# Altium schematic symbol library Isolator.SchLib: 331 symbols (part 1 of 3)
Pins are listed as number, name and electrical type; pins without a type are passive.

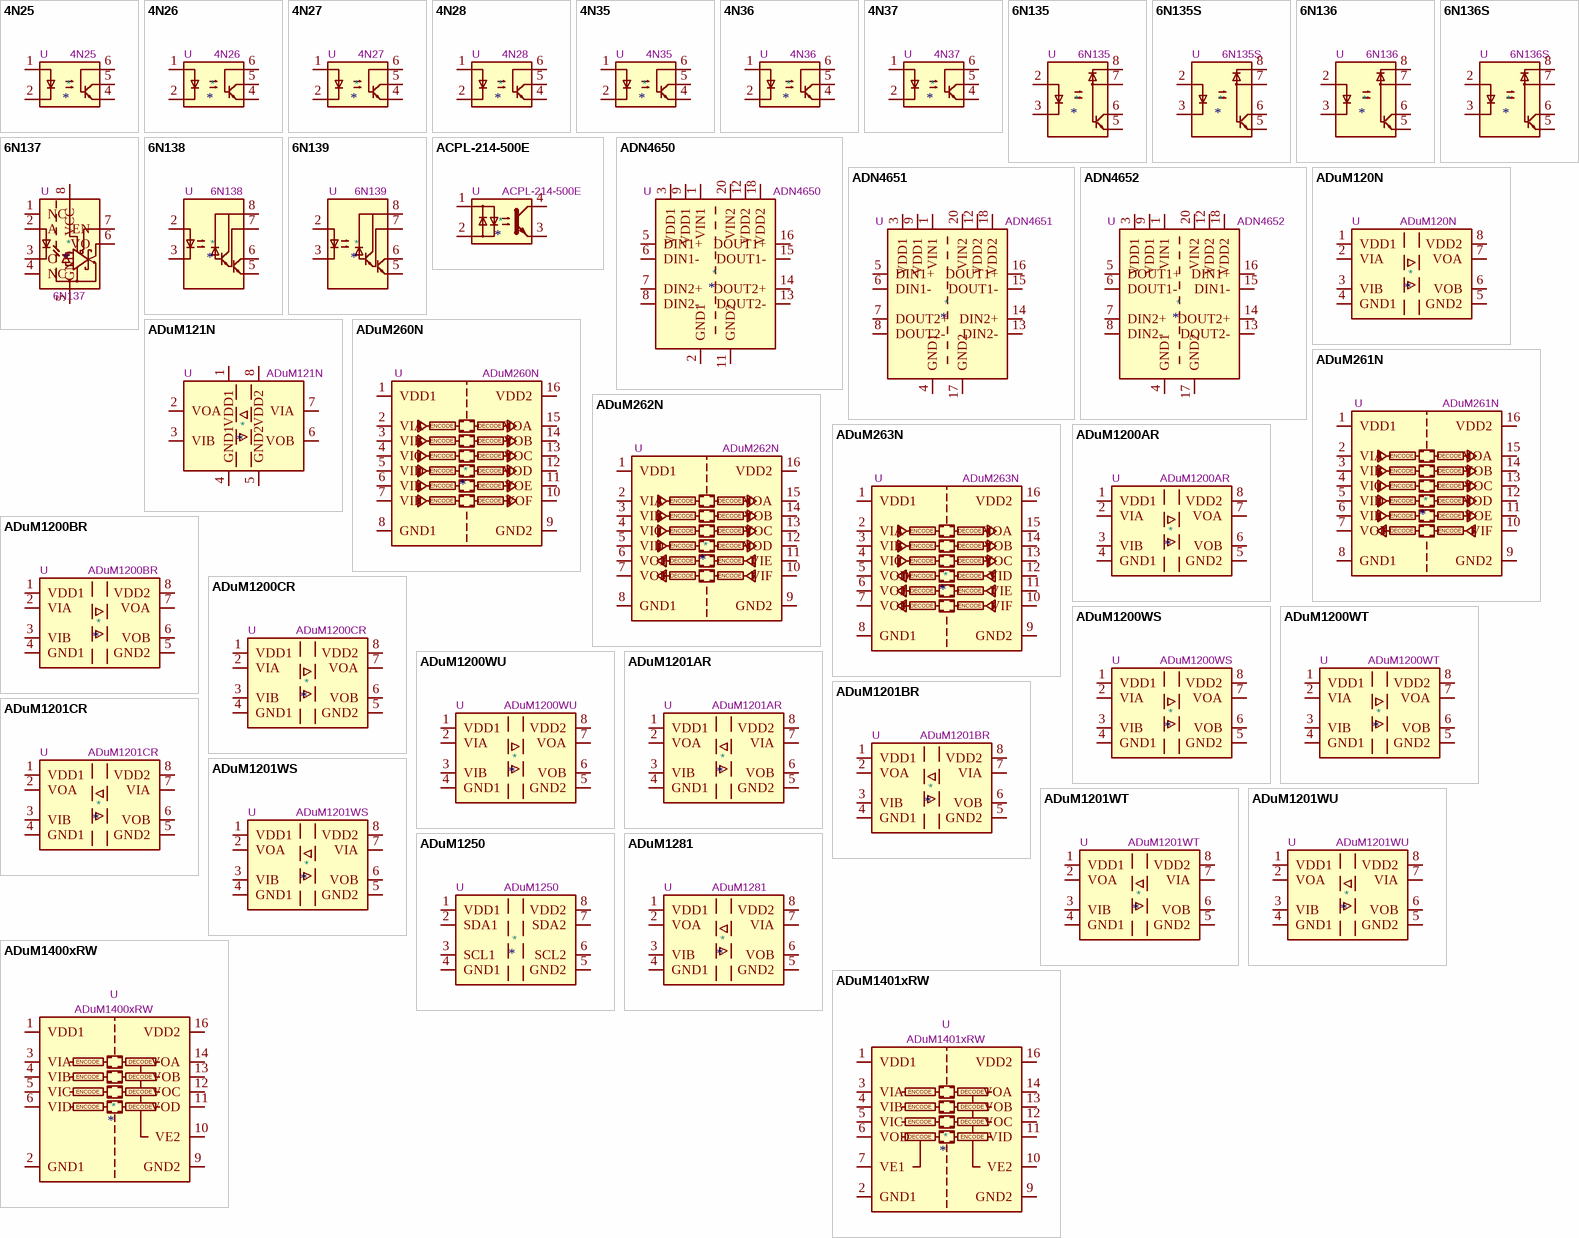
[diagram p0: symbols 4N25 to ADuM1401xRW]

## 4N25
designator *  value 4N25  Reference: U
ki_keywords: NPN DC Optocoupler Base Connected; ki_description: DC Optocoupler Base Connected, Vce 30V, CTR 20%, Viso 2500V, DIP6; ki_fp_filters: DIP*W7.62mm*; Footprint: Package_DIP:DIP-6_W7.62mm; Datasheet: https://www.vishay.com/docs/83725/4n25.pdf
pins: 1, 2, 3 NC hidden, 4, 5, 6

## 4N26
designator *  value 4N26  Reference: U
ki_keywords: NPN DC Optocoupler Base Connected; ki_description: DC Optocoupler Base Connected, Vce 30V, CTR 20%, Viso 1500V, DIP6; ki_fp_filters: DIP*W7.62mm*; Footprint: Package_DIP:DIP-6_W7.62mm; Datasheet: https://www.vishay.com/docs/83725/4n25.pdf
pins: 1, 2, 3 NC hidden, 4, 5, 6

## 4N27
designator *  value 4N27  Reference: U
ki_keywords: NPN DC Optocoupler Base Connected; ki_description: DC Optocoupler Base Connected, Vce 30V, CTR 10%, Viso 2500V, DIP6; ki_fp_filters: DIP*W7.62mm*; Footprint: Package_DIP:DIP-6_W7.62mm; Datasheet: https://www.vishay.com/docs/83725/4n25.pdf
pins: 1, 2, 3 NC hidden, 4, 5, 6

## 4N28
designator *  value 4N28  Reference: U
ki_keywords: NPN DC Optocoupler Base Connected; ki_description: DC Optocoupler Base Connected, Vce 30V, CTR 10%, Viso 2500V, DIP6; ki_fp_filters: DIP*W7.62mm*; Footprint: Package_DIP:DIP-6_W7.62mm; Datasheet: https://www.vishay.com/docs/83725/4n25.pdf
pins: 1, 2, 3 NC hidden, 4, 5, 6

## 4N35
designator *  value 4N35  Reference: U
ki_keywords: NPN DC Optocoupler Base Connected; ki_description: Optocoupler, Phototransistor Output, with Base Connection, Vce 70V, CTR 100%, Viso 5000V, DIP6; ki_fp_filters: DIP*W7.62mm*; Footprint: Package_DIP:DIP-6_W7.62mm; Datasheet: https://www.vishay.com/docs/81181/4n35.pdf
pins: 1, 2, 3 NC hidden, 4, 5, 6

## 4N36
designator *  value 4N36  Reference: U
ki_keywords: NPN DC Optocoupler Base Connected; ki_description: Optocoupler, Phototransistor Output, with Base Connection, Vce 70V, CTR 100%, Viso 5000V, DIP6; ki_fp_filters: DIP*W7.62mm*; Footprint: Package_DIP:DIP-6_W7.62mm; Datasheet: https://www.vishay.com/docs/81181/4n35.pdf
pins: 1, 2, 3 NC hidden, 4, 5, 6

## 4N37
designator *  value 4N37  Reference: U
ki_keywords: NPN DC Optocoupler Base Connected; ki_description: Optocoupler, Phototransistor Output, with Base Connection, Vce 70V, CTR 100%, Viso 5000V, DIP6; ki_fp_filters: DIP*W7.62mm*; Footprint: Package_DIP:DIP-6_W7.62mm; Datasheet: https://www.vishay.com/docs/81181/4n35.pdf
pins: 1, 2, 3 NC hidden, 4, 5, 6

## 6N135
designator *  value 6N135  Reference: U
ki_keywords: High Speed Optocoupler; ki_description: High Speed Optocoupler, TTL Compatible, CTR 18%, DIP8; ki_fp_filters: DIP*W7.62mm*; Footprint: Package_DIP:DIP-8_W7.62mm; Datasheet: https://optoelectronics.liteon.com/upload/download/DS70-2008-0032/6N135-L%206N136-L%20series.pdf
pins: 1 NC hidden, 2, 3, 4 NC hidden, 5, 6, 7, 8

## 6N135S
designator *  value 6N135S  Reference: U
ki_keywords: High Speed Optocoupler; ki_description: High Speed Optocoupler, TTL Compatible, CTR 18%, SMDIP8; ki_fp_filters: SMDIP*W9.53mm*; Footprint: Package_DIP:SMDIP-8_W9.53mm; Datasheet: https://optoelectronics.liteon.com/upload/download/DS70-2008-0032/6N135-L%206N136-L%20series.pdf
pins: 1 NC hidden, 2, 3, 4 NC hidden, 5, 6, 7, 8

## 6N136
designator *  value 6N136  Reference: U
ki_keywords: High Speed Optocoupler; ki_description: High Speed Optocoupler, TTL Compatible, CTR 24%, DIP8; ki_fp_filters: DIP*W7.62mm*; Footprint: Package_DIP:DIP-8_W7.62mm; Datasheet: https://optoelectronics.liteon.com/upload/download/DS70-2008-0032/6N135-L%206N136-L%20series.pdf
pins: 1 NC hidden, 2, 3, 4 NC hidden, 5, 6, 7, 8

## 6N136S
designator *  value 6N136S  Reference: U
ki_keywords: High Speed Optocoupler; ki_description: High Speed Optocoupler, TTL Compatible, CTR 18%, SMDIP8; ki_fp_filters: SMDIP*W9.53mm*; Footprint: Package_DIP:SMDIP-8_W9.53mm; Datasheet: https://optoelectronics.liteon.com/upload/download/DS70-2008-0032/6N135-L%206N136-L%20series.pdf
pins: 1 NC hidden, 2, 3, 4 NC hidden, 5, 6, 7, 8

## 6N137
designator *  value 6N137  Reference: U
ki_keywords: High speed optically coupled gates enable; ki_description: Single High Speed LSTTL/TTL Compatible Optocoupler with enable, dV/dt 1000/us, VCM 10, max 7V VCC, DIP-8; ki_fp_filters: DIP*W7.62mm*; Footprint: Package_DIP:DIP-8_W7.62mm; Datasheet: https://docs.broadcom.com/docs/AV02-0940EN
pins: 1 NC, 2 A, 3 C, 4 NC, 5 GND, 6 VO, 7 EN, 8 VCC

## 6N138
designator *  value 6N138  Reference: U
ki_keywords: darlington optocoupler; ki_description: Low Input Current high Gain Split Darlington Optocouplers, -0.5V to 7V VDD, DIP-8; ki_fp_filters: DIP*W7.62mm* SMDIP*W9.53mm*; Datasheet: http://www.onsemi.com/pub/Collateral/HCPL2731-D.pdf
pins: 1 NC hidden, 2 C1, 3 C2, 4 NC hidden, 5 GND, 6 VO2, 7 VO1, 8 VCC

## 6N139
designator *  value 6N139  Reference: U
ki_keywords: darlington optocoupler; ki_description: Low Input Current high Gain Split Darlington Optocouplers, -0.5V to 18V VDD, DIP-8; ki_fp_filters: DIP*W7.62mm* SMDIP*W9.53mm*; Datasheet: http://www.onsemi.com/pub/Collateral/HCPL2731-D.pdf
pins: 1 NC hidden, 2 C1, 3 C2, 4 NC hidden, 5 GND, 6 VO2, 7 VO1, 8 VCC

## ACPL-214-500E
designator *  value ACPL-214-500E  Reference: U
ki_keywords: npn ac dc ac-dc acdc phototransistor optocoupler optoisolator; ki_description: AC/DC Phototransistor Optocoupler, Vce 80V, CTR 20-400%, SOP-4; ki_fp_filters: SOP*4*4.4x2.6mm*P1.27mm*; Footprint: Package_SO:SOP-4_4.4x2.6mm_P1.27mm; Datasheet: https://docs.broadcom.com/doc/AV02-0469EN
pins: 1, 2, 3, 4

## ADN4650
designator *  value ADN4650  Reference: U
ki_keywords: LVDS Isolator; ki_description: Dual-Channel LVDS Isolators, 5 kV RMS/3.75 kV RMS, 600 Mbps, SSOP-20; ki_fp_filters: SSOP*5.3x7.2mm*P0.65mm*; Footprint: Package_SO:SSOP-20_5.3x7.2mm_P0.65mm; Datasheet: https://www.analog.com/media/en/technical-documentation/data-sheets/adn4650-4651-4652.pdf
pins: 1 VIN1, 2 GND1, 3 VDD1, 4 GND1 hidden, 5 DIN1+, 6 DIN1-, 7 DIN2+, 8 DIN2-, 9 VDD1, 10 GND1 hidden, 11 GND2, 12 VDD2, 13 DOUT2-, 14 DOUT2+, 15 DOUT1-, 16 DOUT1+, 17 GND2 hidden, 18 VDD2, 19 GND2 hidden, 20 VIN2

## ADN4651
designator *  value ADN4651  Reference: U
ki_keywords: LVDS Isolator; ki_description: Dual-Channel LVDS Isolators, 5 kV RMS/3.75 kV RMS, 600 Mbps, SSOP-20; ki_fp_filters: SSOP*5.3x7.2mm*P0.65mm*; Footprint: Package_SO:SSOP-20_5.3x7.2mm_P0.65mm; Datasheet: https://www.analog.com/media/en/technical-documentation/data-sheets/adn4650-4651-4652.pdf
pins: 1 VIN1, 2 GND1 hidden, 3 VDD1, 4 GND1, 5 DIN1+, 6 DIN1-, 7 DOUT2+, 8 DOUT2-, 9 VDD1, 10 GND1 hidden, 11 GND2 hidden, 12 VDD2, 13 DIN2-, 14 DIN2+, 15 DOUT1-, 16 DOUT1+, 17 GND2, 18 VDD2, 19 GND2 hidden, 20 VIN2

## ADN4652
designator *  value ADN4652  Reference: U
ki_keywords: LVDS Isolator; ki_description: Dual-Channel LVDS Isolators, 5 kV RMS/3.75 kV RMS, 600 Mbps, SSOP-20; ki_fp_filters: SSOP*5.3x7.2mm*P0.65mm*; Footprint: Package_SO:SSOP-20_5.3x7.2mm_P0.65mm; Datasheet: https://www.analog.com/media/en/technical-documentation/data-sheets/adn4650-4651-4652.pdf
pins: 1 VIN1, 2 GND1 hidden, 3 VDD1, 4 GND1, 5 DOUT1+, 6 DOUT1-, 7 DIN2+, 8 DIN2-, 9 VDD1, 10 GND1 hidden, 11 GND2 hidden, 12 VDD2, 13 DOUT2-, 14 DOUT2+, 15 DIN1-, 16 DIN1+, 17 GND2, 18 VDD2, 19 GND2 hidden, 20 VIN2

## ADuM120N
designator *  value ADuM120N  Reference: U
ki_keywords: Dual-channel digital isolator; ki_description: Dual-channel digital isolator,1.8 to 5V, 150Mbs, 3kV; ki_fp_filters: SOIC*3.9x4.9mm*P1.27mm*; Footprint: Package_SO:SOIC-8_3.9x4.9mm_P1.27mm; Datasheet: https://www.analog.com/media/en/technical-documentation/data-sheets/ADuM120N_121N.pdf
pins: 1 VDD1, 2 VIA, 3 VIB, 4 GND1, 5 GND2, 6 VOB, 7 VOA, 8 VDD2

## ADuM121N
designator *  value ADuM121N  Reference: U
ki_keywords: Dual-channel digital isolator; ki_description: Dual-channel digital isolator,1.8 to 5V, 150Mbs, 3kV; ki_fp_filters: SOIC*3.9x4.9mm*P1.27mm*; Footprint: Package_SO:SOIC-8_3.9x4.9mm_P1.27mm; Datasheet: https://www.analog.com/media/en/technical-documentation/data-sheets/ADuM120N_121N.pdf
pins: 1 VDD1, 2 VOA, 3 VIB, 4 GND1, 5 GND2, 6 VOB, 7 VIA, 8 VDD2

## ADuM260N
designator *  value ADuM260N  Reference: U
ki_keywords: digital isolator galvanic isopower; ki_description: 5.0 kV RMS, 6-Channel Digital Isolator, 0 reverse channels, SOIC-16; ki_fp_filters: SOIC*7.5x12.8mm*P1.27mm*; Footprint: Package_SO:SOIC-16W_7.5x12.8mm_P1.27mm; Datasheet: http://www.analog.com/media/en/technical-documentation/data-sheets/ADuM260N-261N-262N-263N.pdf
pins: 1 VDD1, 2 VIA, 3 VIB, 4 VIC, 5 VID, 6 VIE, 7 VIF, 8 GND1, 9 GND2, 10 VOF, 11 VOE, 12 VOD, 13 VOC, 14 VOB, 15 VOA, 16 VDD2
text: ENCODE; DECODE

## ADuM261N
designator *  value ADuM261N  Reference: U
ki_keywords: digital isolator galvanic isopower; ki_description: 5.0 kV RMS, 6-Channel Digital Isolator, 1 reverse channels, SOIC-16; ki_fp_filters: SOIC*7.5x12.8mm*P1.27mm*; Footprint: Package_SO:SOIC-16W_7.5x12.8mm_P1.27mm; Datasheet: http://www.analog.com/media/en/technical-documentation/data-sheets/ADuM260N-261N-262N-263N.pdf
pins: 1 VDD1, 2 VIA, 3 VIB, 4 VIC, 5 VID, 6 VIE, 7 VOF, 8 GND1, 9 GND2, 10 VIF, 11 VOE, 12 VOD, 13 VOC, 14 VOB, 15 VOA, 16 VDD2
text: ENCODE; DECODE

## ADuM262N
designator *  value ADuM262N  Reference: U
ki_keywords: digital isolator galvanic isopower; ki_description: 5.0 kV RMS, 6-Channel Digital Isolator, 2 reverse channels, SOIC-16; ki_fp_filters: SOIC*7.5x12.8mm*P1.27mm*; Footprint: Package_SO:SOIC-16W_7.5x12.8mm_P1.27mm; Datasheet: http://www.analog.com/media/en/technical-documentation/data-sheets/ADuM260N-261N-262N-263N.pdf
pins: 1 VDD1, 2 VIA, 3 VIB, 4 VIC, 5 VID, 6 VOE, 7 VOF, 8 GND1, 9 GND2, 10 VIF, 11 VIE, 12 VOD, 13 VOC, 14 VOB, 15 VOA, 16 VDD2
text: ENCODE; DECODE

## ADuM263N
designator *  value ADuM263N  Reference: U
ki_keywords: digital isolator galvanic isopower; ki_description: 5.0 kV RMS, 6-Channel Digital Isolator, 3 reverse channels, SOIC-16; ki_fp_filters: SOIC*7.5x12.8mm*P1.27mm*; Footprint: Package_SO:SOIC-16W_7.5x12.8mm_P1.27mm; Datasheet: http://www.analog.com/media/en/technical-documentation/data-sheets/ADuM260N-261N-262N-263N.pdf
pins: 1 VDD1, 2 VIA, 3 VIB, 4 VIC, 5 VOD, 6 VOE, 7 VOF, 8 GND1, 9 GND2, 10 VIF, 11 VIE, 12 VID, 13 VOC, 14 VOB, 15 VOA, 16 VDD2
text: ENCODE; DECODE

## ADuM1200AR
designator *  value ADuM1200AR  Reference: U
ki_keywords: Dual-channel digital isolator; ki_description: Dual-channel digital isolator, Bidirectional communication, 3V/5V level translation, SOIC-8; ki_fp_filters: SOIC*3.9x4.9mm*P1.27mm*; Footprint: Package_SO:SOIC-8_3.9x4.9mm_P1.27mm; Datasheet: https://www.analog.com/media/en/technical-documentation/data-sheets/ADuM1200_1201.pdf
pins: 1 VDD1, 2 VIA, 3 VIB, 4 GND1, 5 GND2, 6 VOB, 7 VOA, 8 VDD2

## ADuM1200BR
designator *  value ADuM1200BR  Reference: U
ki_keywords: 2Ch Dual Digital Isolator 10Mbps; ki_description: Dual-Channel Digital Isolator, 10Mbps 50ns, bidirectional communication, 3V/5V level translation, SOIC-8; ki_fp_filters: SOIC*3.9x4.9mm*P1.27mm*; Footprint: Package_SO:SOIC-8_3.9x4.9mm_P1.27mm; Datasheet: https://www.analog.com/static/imported-files/data_sheets/ADuM1200_1201.pdf
pins: 1 VDD1, 2 VIA, 3 VIB, 4 GND1, 5 GND2, 6 VOB, 7 VOA, 8 VDD2

## ADuM1200CR
designator *  value ADuM1200CR  Reference: U
ki_keywords: 2Ch Dual Digital Isolator 25Mbps; ki_description: Dual-Channel Digital Isolator, 25Mbps 45ns, bidirectional communication, 3V/5V level translation, SOIC-8; ki_fp_filters: SOIC*3.9x4.9mm*P1.27mm*; Footprint: Package_SO:SOIC-8_3.9x4.9mm_P1.27mm; Datasheet: https://www.analog.com/static/imported-files/data_sheets/ADuM1200_1201.pdf
pins: 1 VDD1, 2 VIA, 3 VIB, 4 GND1, 5 GND2, 6 VOB, 7 VOA, 8 VDD2

## ADuM1200WS
designator *  value ADuM1200WS  Reference: U
ki_keywords: 2Ch Dual Digital Isolator 1Mbps; ki_description: Dual-Channel Digital Isolator, 1Mbps 150ns, Highest Tem. Grade, bidirectional communication, 3V/5V level translation, SOIC-8; ki_fp_filters: SOIC*3.9x4.9mm*P1.27mm*; Footprint: Package_SO:SOIC-8_3.9x4.9mm_P1.27mm; Datasheet: https://www.analog.com/static/imported-files/data_sheets/ADuM1200_1201.pdf
pins: 1 VDD1, 2 VIA, 3 VIB, 4 GND1, 5 GND2, 6 VOB, 7 VOA, 8 VDD2

## ADuM1200WT
designator *  value ADuM1200WT  Reference: U
ki_keywords: 2Ch Dual Digital Isolator 10Mbps; ki_description: Dual-Channel Digital Isolator, 10Mbps 50ns, Highest Tem. Grade, bidirectional communication, 3V/5V level translation, SOIC-8; ki_fp_filters: SOIC*3.9x4.9mm*P1.27mm*; Footprint: Package_SO:SOIC-8_3.9x4.9mm_P1.27mm; Datasheet: https://www.analog.com/static/imported-files/data_sheets/ADuM1200_1201.pdf
pins: 1 VDD1, 2 VIA, 3 VIB, 4 GND1, 5 GND2, 6 VOB, 7 VOA, 8 VDD2

## ADuM1200WU
designator *  value ADuM1200WU  Reference: U
ki_keywords: 2Ch Dual Digital Isolator 25Mbps; ki_description: Dual-Channel Digital Isolator, 25Mbps 45ns, Highest Tem. Grade, bidirectional communication, 3V/5V level translation, SOIC-8; ki_fp_filters: SOIC*3.9x4.9mm*P1.27mm*; Footprint: Package_SO:SOIC-8_3.9x4.9mm_P1.27mm; Datasheet: https://www.analog.com/static/imported-files/data_sheets/ADuM1200_1201.pdf
pins: 1 VDD1, 2 VIA, 3 VIB, 4 GND1, 5 GND2, 6 VOB, 7 VOA, 8 VDD2

## ADuM1201AR
designator *  value ADuM1201AR  Reference: U
ki_keywords: Dual-channel digital isolator; ki_description: Dual-channel digital isolator, bidirectional communication, 3V/5V level translation, SOIC-8; ki_fp_filters: SOIC*3.9x4.9mm*P1.27mm*; Footprint: Package_SO:SOIC-8_3.9x4.9mm_P1.27mm; Datasheet: https://www.analog.com/media/en/technical-documentation/data-sheets/ADuM1200_1201.pdf
pins: 1 VDD1, 2 VOA, 3 VIB, 4 GND1, 5 GND2, 6 VOB, 7 VIA, 8 VDD2

## ADuM1201BR
designator *  value ADuM1201BR  Reference: U
ki_keywords: 2Ch Dual Digital Isolator 10Mbps; ki_description: Dual-Channel Digital Isolator, 10Mbps 50ns, bidirectional communication, 3V/5V level translation, SOIC-8; ki_fp_filters: SOIC*3.9x4.9mm*P1.27mm*; Footprint: Package_SO:SOIC-8_3.9x4.9mm_P1.27mm; Datasheet: https://www.analog.com/static/imported-files/data_sheets/ADuM1200_1201.pdf
pins: 1 VDD1, 2 VOA, 3 VIB, 4 GND1, 5 GND2, 6 VOB, 7 VIA, 8 VDD2

## ADuM1201CR
designator *  value ADuM1201CR  Reference: U
ki_keywords: 2Ch Dual Digital Isolator 25Mbps; ki_description: Dual-Channel Digital Isolator, 25Mbps 45ns, bidirectional communication, 3V/5V level translation, SOIC-8; ki_fp_filters: SOIC*3.9x4.9mm*P1.27mm*; Footprint: Package_SO:SOIC-8_3.9x4.9mm_P1.27mm; Datasheet: https://www.analog.com/static/imported-files/data_sheets/ADuM1200_1201.pdf
pins: 1 VDD1, 2 VOA, 3 VIB, 4 GND1, 5 GND2, 6 VOB, 7 VIA, 8 VDD2

## ADuM1201WS
designator *  value ADuM1201WS  Reference: U
ki_keywords: 2Ch Dual Digital Isolator 1Mbps; ki_description: Dual-Channel Digital Isolator, 1Mbps 150ns, Highest Temp. Grade, bidirectional communication, 3V/5V level translation, SOIC-8; ki_fp_filters: SOIC*3.9x4.9mm*P1.27mm*; Footprint: Package_SO:SOIC-8_3.9x4.9mm_P1.27mm; Datasheet: https://www.analog.com/static/imported-files/data_sheets/ADuM1200_1201.pdf
pins: 1 VDD1, 2 VOA, 3 VIB, 4 GND1, 5 GND2, 6 VOB, 7 VIA, 8 VDD2

## ADuM1201WT
designator *  value ADuM1201WT  Reference: U
ki_keywords: 2Ch Dual Digital Isolator 10Mbps; ki_description: Dual-Channel Digital Isolator, 10Mbps 50ns, Hihgest Temp. Grade, bidirectional communication, 3V/5V level translation, SOIC-8; ki_fp_filters: SOIC*3.9x4.9mm*P1.27mm*; Footprint: Package_SO:SOIC-8_3.9x4.9mm_P1.27mm; Datasheet: https://www.analog.com/static/imported-files/data_sheets/ADuM1200_1201.pdf
pins: 1 VDD1, 2 VOA, 3 VIB, 4 GND1, 5 GND2, 6 VOB, 7 VIA, 8 VDD2

## ADuM1201WU
designator *  value ADuM1201WU  Reference: U
ki_keywords: 2Ch Dual Digital Isolator 25Mbps; ki_description: Dual-Channel Digital Isolator, 25Mbps 45ns, Highest Temp. Grade, bidirectional communication, 3V/5V level translation, SOIC-8; ki_fp_filters: SOIC*3.9x4.9mm*P1.27mm*; Footprint: Package_SO:SOIC-8_3.9x4.9mm_P1.27mm; Datasheet: https://www.analog.com/static/imported-files/data_sheets/ADuM1200_1201.pdf
pins: 1 VDD1, 2 VOA, 3 VIB, 4 GND1, 5 GND2, 6 VOB, 7 VIA, 8 VDD2

## ADuM1250
designator *  value ADuM1250  Reference: U
ki_keywords: Dual-channel digital isolator I2C; ki_description: Dual-channel I2C digital isolator, Bidirectional communication, 3V/5V level translation, SOIC-8; ki_fp_filters: SOIC*3.9x4.9mm*P1.27mm*; Footprint: Package_SO:SOIC-8_3.9x4.9mm_P1.27mm; Datasheet: https://www.analog.com/media/en/technical-documentation/data-sheets/ADuM1250_1251.pdf
pins: 1 VDD1, 2 SDA1, 3 SCL1, 4 GND1, 5 GND2, 6 SCL2, 7 SDA2, 8 VDD2

## ADuM1281
designator *  value ADuM1281  Reference: U
ki_keywords: Dual-channel digital isolator; ki_description: Dual-channel digital isolator, bidirectional communication, 3V/5V level translation, SOIC-8; ki_fp_filters: SOIC*3.9x4.9mm*P1.27mm*; Footprint: Package_SO:SOIC-8_3.9x4.9mm_P1.27mm; Datasheet: https://www.analog.com/media/en/technical-documentation/data-sheets/ADuM1280_1281_1285_1286.pdf
pins: 1 VDD1, 2 VOA, 3 VIB, 4 GND1, 5 GND2, 6 VOB, 7 VIA, 8 VDD2

## ADuM1400xRW
designator *  value ADuM1400xRW  Reference: U
ki_keywords: Digital Isolator; ki_description: Quad Channel Digital Isolator, 10Mbps, SOIC-16; ki_fp_filters: SOIC*7.5x10.3mm*P1.27mm*; Footprint: Package_SO:SOIC-16W_7.5x10.3mm_P1.27mm; Datasheet: https://www.analog.com/media/en/technical-documentation/data-sheets/ADUM1400_1401_1402.pdf
pins: 1 VDD1, 2 GND1, 3 VIA, 4 VIB, 5 VIC, 6 VID, 7 NC hidden, 8 GND1 hidden, 9 GND2, 10 VE2, 11 VOD, 12 VOC, 13 VOB, 14 VOA, 15 GND2 hidden, 16 VDD2
text: ENCODE; DECODE

## ADuM1401xRW
designator *  value ADuM1401xRW  Reference: U
ki_keywords: Digital Isolator; ki_description: Quad Channel Digital Isolator, 10Mbps, SOIC-16; ki_fp_filters: SOIC*7.5x10.3mm*P1.27mm*; Footprint: Package_SO:SOIC-16W_7.5x10.3mm_P1.27mm; Datasheet: https://www.analog.com/media/en/technical-documentation/data-sheets/ADUM1400_1401_1402.pdf
pins: 1 VDD1, 2 GND1, 3 VIA, 4 VIB, 5 VIC, 6 VOD, 7 VE1, 8 GND1 hidden, 9 GND2, 10 VE2, 11 VID, 12 VOC, 13 VOB, 14 VOA, 15 GND2 hidden, 16 VDD2
text: ENCODE; DECODE

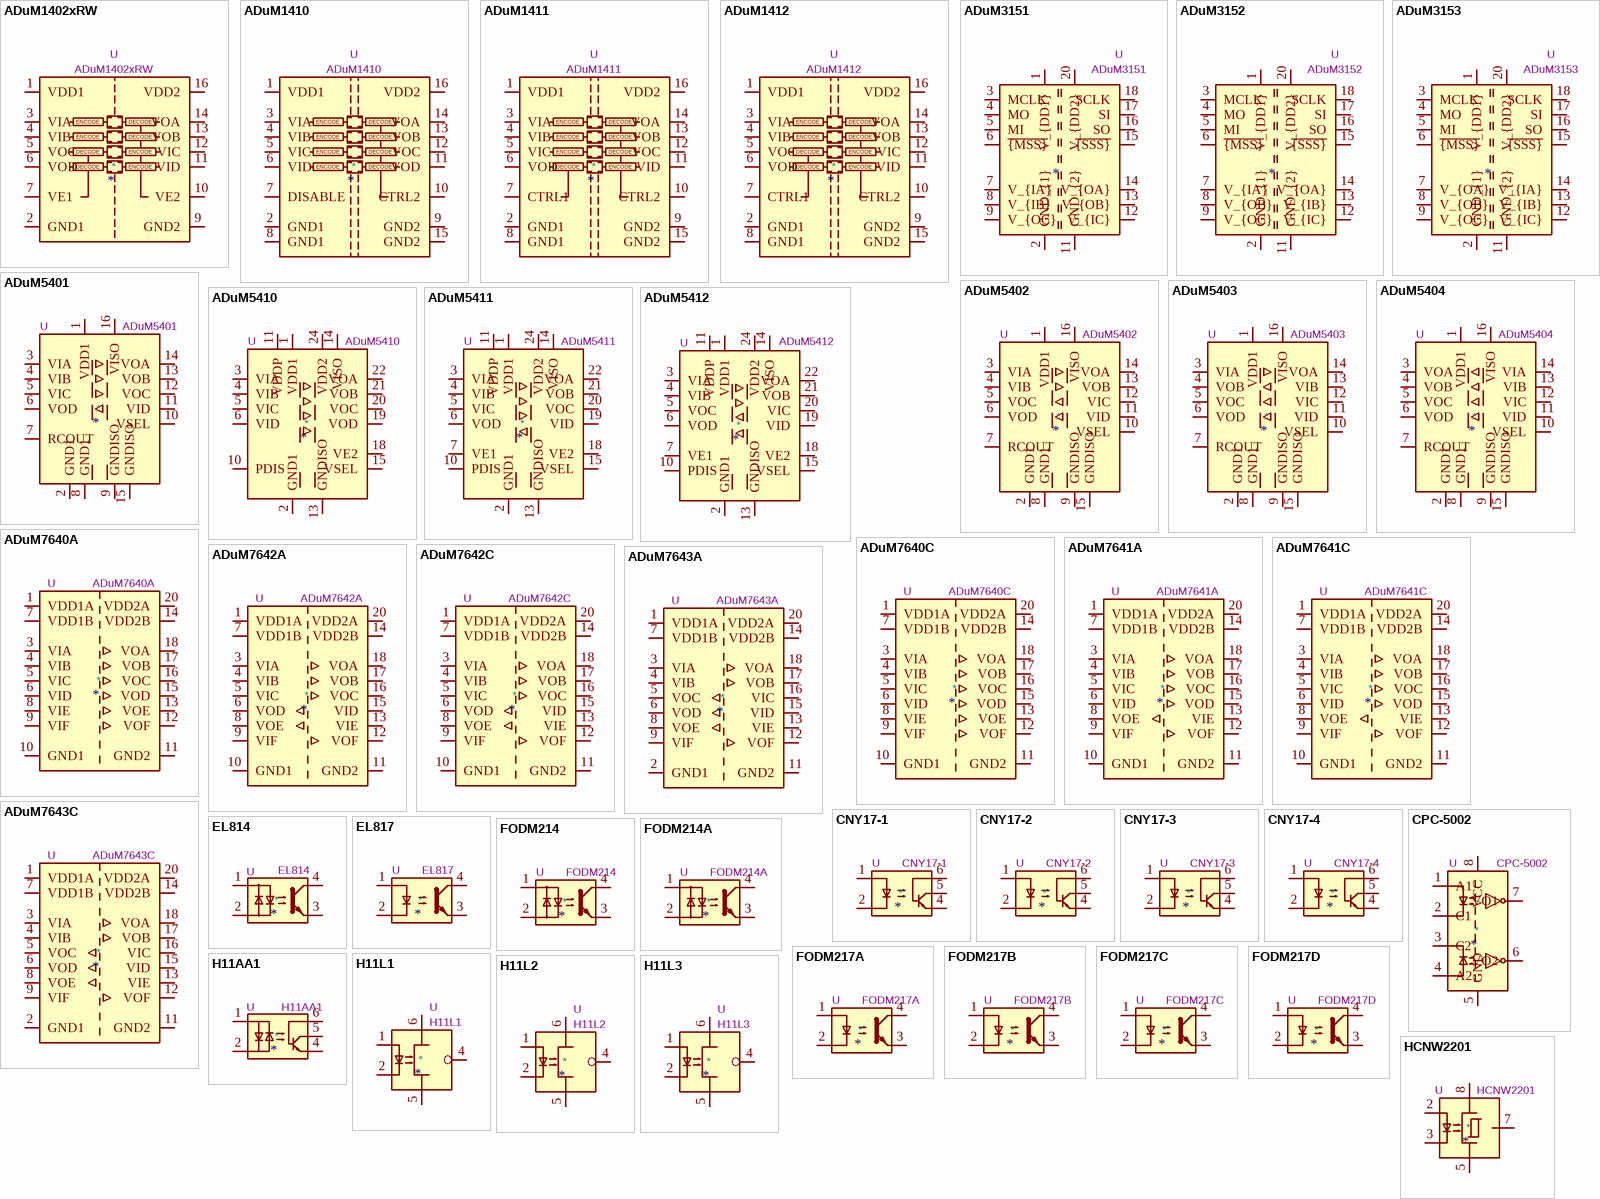
[diagram p1: symbols ADuM1402xRW to HCNW2201]

## ADuM1402xRW
designator *  value ADuM1402xRW  Reference: U
ki_keywords: Digital Isolator; ki_description: Quad Channel Digital Isolator, 10Mbps, SOIC-16; ki_fp_filters: SOIC*7.5x10.3mm*P1.27mm*; Footprint: Package_SO:SOIC-16W_7.5x10.3mm_P1.27mm; Datasheet: https://www.analog.com/media/en/technical-documentation/data-sheets/ADUM1400_1401_1402.pdf
pins: 1 VDD1, 2 GND1, 3 VIA, 4 VIB, 5 VOC, 6 VOD, 7 VE1, 8 GND1 hidden, 9 GND2, 10 VE2, 11 VID, 12 VIC, 13 VOB, 14 VOA, 15 GND2 hidden, 16 VDD2
text: ENCODE; DECODE

## ADuM1410
designator *  value ADuM1410  Reference: U
ki_keywords: Digital Isolator; ki_description: Quad Channel Digital Isolator,10Mbps,SO-16; ki_fp_filters: SOIC*7.5x10.3mm*P1.27mm*; Footprint: Package_SO:SOIC-16W_7.5x10.3mm_P1.27mm; Datasheet: https://www.analog.com/media/en/technical-documentation/data-sheets/ADUM1410_1411_1412.pdf
pins: 1 VDD1, 2 GND1, 3 VIA, 4 VIB, 5 VIC, 6 VID, 7 DISABLE, 8 GND1, 9 GND2, 10 CTRL2, 11 VOD, 12 VOC, 13 VOB, 14 VOA, 15 GND2, 16 VDD2
text: ENCODE; DECODE

## ADuM1411
designator *  value ADuM1411  Reference: U
ki_keywords: Digital Isolator; ki_description: Quad Channel Digital Isolator,10Mbps,SO-16; ki_fp_filters: SOIC*7.5x10.3mm*P1.27mm*; Footprint: Package_SO:SOIC-16W_7.5x10.3mm_P1.27mm; Datasheet: https://www.analog.com/media/en/technical-documentation/data-sheets/ADUM1410_1411_1412.pdf
pins: 1 VDD1, 2 GND1, 3 VIA, 4 VIB, 5 VIC, 6 VOD, 7 CTRL1, 8 GND1, 9 GND2, 10 CTRL2, 11 VID, 12 VOC, 13 VOB, 14 VOA, 15 GND2, 16 VDD2
text: ENCODE; DECODE

## ADuM1412
designator *  value ADuM1412  Reference: U
ki_keywords: Digital Isolator; ki_description: Quad Channel Digital Isolator,10Mbps,SO-16; ki_fp_filters: SOIC*7.5x10.3mm*P1.27mm*; Footprint: Package_SO:SOIC-16W_7.5x10.3mm_P1.27mm; Datasheet: https://www.analog.com/media/en/technical-documentation/data-sheets/ADUM1410_1411_1412.pdf
pins: 1 VDD1, 2 GND1, 3 VIA, 4 VIB, 5 VOC, 6 VOD, 7 CTRL1, 8 GND1, 9 GND2, 10 CTRL2, 11 VID, 12 VIC, 13 VOB, 14 VOA, 15 GND2, 16 VDD2
text: ENCODE; DECODE

## ADuM3151
designator *  value ADuM3151  Reference: U
ki_keywords: spi isolated; ki_description: 3.75kV 7-Channel SPI Isolator, 1 Reverse Channel, SSOP-20; ki_fp_filters: SSOP*5.3x7.2mm*P0.65mm*; Footprint: Package_SO:SSOP-20_5.3x7.2mm_P0.65mm; Datasheet: https://www.analog.com/media/en/technical-documentation/data-sheets/ADuM3151_3152_3153.pdf
pins: 1 V_{DD1}, 2 GND_{1}, 3 MCLK, 4 MO, 5 MI, 6 ~{{MSS}}, 7 V_{IA}, 8 V_{IB}, 9 V_{OC}, 10 GND_{1} hidden, 11 GND_{2}, 12 V_{IC}, 13 V_{OB}, 14 V_{OA}, 15 ~{{SSS}}, 16 SO, 17 SI, 18 SCLK, 19 GND_{2} hidden, 20 V_{DD2}

## ADuM3152
designator *  value ADuM3152  Reference: U
ki_keywords: spi isolated; ki_description: 3.75kV 7-Channel SPI Isolator, 2 Reverse Channels, SSOP-20; ki_fp_filters: SSOP*5.3x7.2mm*P0.65mm*; Footprint: Package_SO:SSOP-20_5.3x7.2mm_P0.65mm; Datasheet: https://www.analog.com/media/en/technical-documentation/data-sheets/ADuM3151_3152_3153.pdf
pins: 1 V_{DD1}, 2 GND_{1}, 3 MCLK, 4 MO, 5 MI, 6 ~{{MSS}}, 7 V_{IA}, 8 V_{OB}, 9 V_{OC}, 10 GND_{1} hidden, 11 GND_{2}, 12 V_{IC}, 13 V_{IB}, 14 V_{OA}, 15 ~{{SSS}}, 16 SO, 17 SI, 18 SCLK, 19 GND_{2} hidden, 20 V_{DD2}

## ADuM3153
designator *  value ADuM3153  Reference: U
ki_keywords: spi isolated; ki_description: 3.75kV 7-Channel SPI Isolator, 3 Reverse Channels, SSOP-20; ki_fp_filters: SSOP*5.3x7.2mm*P0.65mm*; Footprint: Package_SO:SSOP-20_5.3x7.2mm_P0.65mm; Datasheet: https://www.analog.com/media/en/technical-documentation/data-sheets/ADuM3151_3152_3153.pdf
pins: 1 V_{DD1}, 2 GND_{1}, 3 MCLK, 4 MO, 5 MI, 6 ~{{MSS}}, 7 V_{OA}, 8 V_{OB}, 9 V_{OC}, 10 GND_{1} hidden, 11 GND_{2}, 12 V_{IC}, 13 V_{IB}, 14 V_{IA}, 15 ~{{SSS}}, 16 SO, 17 SI, 18 SCLK, 19 GND_{2} hidden, 20 V_{DD2}

## ADuM5401
designator *  value ADuM5401  Reference: U
ki_keywords: digital isolator galvanic isopower; ki_description: Quad-Channel 2.5kV isolator with integrated isoPower dc-dc converter, 3 Input / 1 output, SOIC-16; ki_fp_filters: SOIC*7.5x10.3mm*P1.27mm*; Footprint: Package_SO:SOIC-16W_7.5x10.3mm_P1.27mm; Datasheet: https://www.analog.com/media/en/technical-documentation/data-sheets/ADuM5401_5402_5403_5404.pdf
pins: 1 VDD1, 2 GND1, 3 VIA, 4 VIB, 5 VIC, 6 VOD, 7 RCOUT, 8 GND1, 9 GNDISO, 10 VSEL, 11 VID, 12 VOC, 13 VOB, 14 VOA, 15 GNDISO, 16 VISO

## ADuM5402
designator *  value ADuM5402  Reference: U
ki_keywords: digital isolator galvanic isopower; ki_description: Quad-Channel 2.5kV isolator with integrated isoPower dc-dc converter, 2 Input / 2 output, SOIC-16; ki_fp_filters: SOIC*7.5x10.3mm*P1.27mm*; Footprint: Package_SO:SOIC-16W_7.5x10.3mm_P1.27mm; Datasheet: https://www.analog.com/media/en/technical-documentation/data-sheets/ADuM5401_5402_5403_5404.pdf
pins: 1 VDD1, 2 GND1, 3 VIA, 4 VIB, 5 VOC, 6 VOD, 7 RCOUT, 8 GND1, 9 GNDISO, 10 VSEL, 11 VID, 12 VIC, 13 VOB, 14 VOA, 15 GNDISO, 16 VISO

## ADuM5403
designator *  value ADuM5403  Reference: U
ki_keywords: digital isolator galvanic isopower; ki_description: Quad-Channel 2.5kV isolator with integrated isoPower dc-dc converter, 1 Input / 3 output, SOIC-16; ki_fp_filters: SOIC*7.5x10.3mm*P1.27mm*; Footprint: Package_SO:SOIC-16W_7.5x10.3mm_P1.27mm; Datasheet: https://www.analog.com/media/en/technical-documentation/data-sheets/ADuM5401_5402_5403_5404.pdf
pins: 1 VDD1, 2 GND1, 3 VIA, 4 VOB, 5 VOC, 6 VOD, 7 RCOUT, 8 GND1, 9 GNDISO, 10 VSEL, 11 VID, 12 VIC, 13 VIB, 14 VOA, 15 GNDISO, 16 VISO

## ADuM5404
designator *  value ADuM5404  Reference: U
ki_keywords: digital isolator galvanic isopower; ki_description: Quad-Channel 2.5kV isolator with integrated isoPower dc-dc converter, 0 Input / 4 output, SOIC-16; ki_fp_filters: SOIC*7.5x10.3mm*P1.27mm*; Footprint: Package_SO:SOIC-16W_7.5x10.3mm_P1.27mm; Datasheet: https://www.analog.com/media/en/technical-documentation/data-sheets/ADuM5401_5402_5403_5404.pdf
pins: 1 VDD1, 2 GND1, 3 VOA, 4 VOB, 5 VOC, 6 VOD, 7 RCOUT, 8 GND1, 9 GNDISO, 10 VSEL, 11 VID, 12 VIC, 13 VIB, 14 VIA, 15 GNDISO, 16 VISO

## ADuM5410
designator *  value ADuM5410  Reference: U
ki_keywords: digital isolator galvanic isopower; ki_description: Quad-Channel 2.5kV isolator with integrated dc-dc converter, 4 Input / 0 output, SSOP-24; ki_fp_filters: SSOP*5.3x8.2mm*P0.65mm*; Footprint: Package_SO:SSOP-24_5.3x8.2mm_P0.65mm; Datasheet: https://www.analog.com/media/en/technical-documentation/data-sheets/ADuM5410-5411-5412.pdf
pins: 1 VDD1, 2 GND1, 3 VIA, 4 VIB, 5 VIC, 6 VID, 7 NC hidden, 8 NC hidden, 9 GND1 hidden, 10 PDIS, 11 VDDP, 12 GND1 hidden, 13 GNDISO, 14 VISO, 15 VSEL, 16 GNDISO hidden, 17 NC hidden, 18 VE2, 19 VOD, 20 VOC, 21 VOB, 22 VOA, 23 GNDISO hidden, 24 VDD2

## ADuM5411
designator *  value ADuM5411  Reference: U
ki_keywords: digital isolator galvanic isopower; ki_description: Quad-Channel 2.5kV isolator with integrated dc-dc converter, 3 Input / 1 output, SSOP-24; ki_fp_filters: SSOP*5.3x8.2mm*P0.65mm*; Footprint: Package_SO:SSOP-24_5.3x8.2mm_P0.65mm; Datasheet: https://www.analog.com/media/en/technical-documentation/data-sheets/ADuM5410-5411-5412.pdf
pins: 1 VDD1, 2 GND1, 3 VIA, 4 VIB, 5 VIC, 6 VOD, 7 VE1, 8 NC hidden, 9 GND1 hidden, 10 PDIS, 11 VDDP, 12 GND1 hidden, 13 GNDISO, 14 VISO, 15 VSEL, 16 GNDISO hidden, 17 NC hidden, 18 VE2, 19 VID, 20 VOC, 21 VOB, 22 VOA, 23 GNDISO hidden, 24 VDD2

## ADuM5412
designator *  value ADuM5412  Reference: U
ki_keywords: digital isolator galvanic isopower; ki_description: Quad-Channel 2.5kV isolator with integrated dc-dc converter, 2 Input / 2 output, SSOP-24; ki_fp_filters: SSOP*5.3x8.2mm*P0.65mm*; Footprint: Package_SO:SSOP-24_5.3x8.2mm_P0.65mm; Datasheet: https://www.analog.com/media/en/technical-documentation/data-sheets/ADuM5410-5411-5412.pdf
pins: 1 VDD1, 2 GND1, 3 VIA, 4 VIB, 5 VOC, 6 VOD, 7 VE1, 8 NC hidden, 9 GND1 hidden, 10 PDIS, 11 VDDP, 12 GND1 hidden, 13 GNDISO, 14 VISO, 15 VSEL, 16 GNDISO hidden, 17 NC hidden, 18 VE2, 19 VID, 20 VIC, 21 VOB, 22 VOA, 23 GNDISO hidden, 24 VDD2

## ADuM7640A
designator *  value ADuM7640A  Reference: U
ki_keywords: 6-Channels Hex Digital Isolator 1Mbps; ki_description: Low Power Six-Channel 6/0 Digital Isolator, 1Mbps 25ns, Fail-Safe High, QSOP-20; ki_fp_filters: QSOP*3.9x8.7mm*P0.635mm*; Footprint: Package_SO:QSOP-20_3.9x8.7mm_P0.635mm; Datasheet: https://www.analog.com/media/en/technical-documentation/data-sheets/ADuM7640_7641_7642_7643.pdf
pins: 1 VDD1A, 2 GND1 hidden, 3 VIA, 4 VIB, 5 VIC, 6 VID, 7 VDD1B, 8 VIE, 9 VIF, 10 GND1, 11 GND2, 12 VOF, 13 VOE, 14 VDD2B, 15 VOD, 16 VOC, 17 VOB, 18 VOA, 19 GND2 hidden, 20 VDD2A

## ADuM7640C
designator *  value ADuM7640C  Reference: U
ki_keywords: 6-Channels Hex Digital Isolator 25Mbps; ki_description: Low Power Six-Channel 6/0 Digital Isolator, 25Mbps 6ns, Fail-Safe High, QSOP-20; ki_fp_filters: QSOP*3.9x8.7mm*P0.635mm*; Footprint: Package_SO:QSOP-20_3.9x8.7mm_P0.635mm; Datasheet: https://www.analog.com/media/en/technical-documentation/data-sheets/ADuM7640_7641_7642_7643.pdf
pins: 1 VDD1A, 2 GND1 hidden, 3 VIA, 4 VIB, 5 VIC, 6 VID, 7 VDD1B, 8 VIE, 9 VIF, 10 GND1, 11 GND2, 12 VOF, 13 VOE, 14 VDD2B, 15 VOD, 16 VOC, 17 VOB, 18 VOA, 19 GND2 hidden, 20 VDD2A

## ADuM7641A
designator *  value ADuM7641A  Reference: U
ki_keywords: 6-Channels Hex Digital Isolator 1Mbps; ki_description: Low Power Six-Channel 5/1 Digital Isolator, 1Mbps 25ns, Fail-Safe High, QSOP-20; ki_fp_filters: QSOP*3.9x8.7mm*P0.635mm*; Footprint: Package_SO:QSOP-20_3.9x8.7mm_P0.635mm; Datasheet: https://www.analog.com/media/en/technical-documentation/data-sheets/ADuM7640_7641_7642_7643.pdf
pins: 1 VDD1A, 2 GND1 hidden, 3 VIA, 4 VIB, 5 VIC, 6 VID, 7 VDD1B, 8 VOE, 9 VIF, 10 GND1, 11 GND2, 12 VOF, 13 VIE, 14 VDD2B, 15 VOD, 16 VOC, 17 VOB, 18 VOA, 19 GND2 hidden, 20 VDD2A

## ADuM7641C
designator *  value ADuM7641C  Reference: U
ki_keywords: 6-Channels Hex Digital Isolator 25Mbps; ki_description: Low Power Six-Channel 5/1 Digital Isolator, 25Mbps 6ns, Fail-Safe High, QSOP-20; ki_fp_filters: QSOP*3.9x8.7mm*P0.635mm*; Footprint: Package_SO:QSOP-20_3.9x8.7mm_P0.635mm; Datasheet: https://www.analog.com/media/en/technical-documentation/data-sheets/ADuM7640_7641_7642_7643.pdf
pins: 1 VDD1A, 2 GND1 hidden, 3 VIA, 4 VIB, 5 VIC, 6 VID, 7 VDD1B, 8 VOE, 9 VIF, 10 GND1, 11 GND2, 12 VOF, 13 VIE, 14 VDD2B, 15 VOD, 16 VOC, 17 VOB, 18 VOA, 19 GND2 hidden, 20 VDD2A

## ADuM7642A
designator *  value ADuM7642A  Reference: U
ki_keywords: 6-Channels Hex Digital Isolator 1Mbps; ki_description: Low Power Six-Channel 4/2 Digital Isolator, 1Mbps 25ns, Fail-Safe High, QSOP-20; ki_fp_filters: QSOP*3.9x8.7mm*P0.635mm*; Footprint: Package_SO:QSOP-20_3.9x8.7mm_P0.635mm; Datasheet: https://www.analog.com/media/en/technical-documentation/data-sheets/ADuM7640_7641_7642_7643.pdf
pins: 1 VDD1A, 2 GND1 hidden, 3 VIA, 4 VIB, 5 VIC, 6 VOD, 7 VDD1B, 8 VOE, 9 VIF, 10 GND1, 11 GND2, 12 VOF, 13 VIE, 14 VDD2B, 15 VID, 16 VOC, 17 VOB, 18 VOA, 19 GND2 hidden, 20 VDD2A

## ADuM7642C
designator *  value ADuM7642C  Reference: U
ki_keywords: 6-Channels Hex Digital Isolator 25Mbps; ki_description: Low Power Six-Channel 4/2 Digital Isolator, 25Mbps 6ns, Fail-Safe High, QSOP-20; ki_fp_filters: QSOP*3.9x8.7mm*P0.635mm*; Footprint: Package_SO:QSOP-20_3.9x8.7mm_P0.635mm; Datasheet: https://www.analog.com/media/en/technical-documentation/data-sheets/ADuM7640_7641_7642_7643.pdf
pins: 1 VDD1A, 2 GND1 hidden, 3 VIA, 4 VIB, 5 VIC, 6 VOD, 7 VDD1B, 8 VOE, 9 VIF, 10 GND1, 11 GND2, 12 VOF, 13 VIE, 14 VDD2B, 15 VID, 16 VOC, 17 VOB, 18 VOA, 19 GND2 hidden, 20 VDD2A

## ADuM7643A
designator *  value ADuM7643A  Reference: U
ki_keywords: 6-Channels Hex Digital Isolator 1Mbps; ki_description: Low Power Six-Channel 3/3 Digital Isolator, 1Mbps 25ns, Fail-Safe High, QSOP-20; ki_fp_filters: QSOP*3.9x8.7mm*P0.635mm*; Footprint: Package_SO:QSOP-20_3.9x8.7mm_P0.635mm; Datasheet: https://www.analog.com/media/en/technical-documentation/data-sheets/ADuM7640_7641_7642_7643.pdf
pins: 1 VDD1A, 2 GND1, 3 VIA, 4 VIB, 5 VOC, 6 VOD, 7 VDD1B, 8 VOE, 9 VIF, 10 GND1 hidden, 11 GND2, 12 VOF, 13 VIE, 14 VDD2B, 15 VID, 16 VIC, 17 VOB, 18 VOA, 19 GND2 hidden, 20 VDD2A

## ADuM7643C
designator *  value ADuM7643C  Reference: U
ki_keywords: 6-Channels Hex Digital Isolator 25Mbps; ki_description: Low Power Six-Channel 3/3 Digital Isolator, 25Mbps 6ns, Fail-Safe High, QSOP-20; ki_fp_filters: QSOP*3.9x8.7mm*P0.635mm*; Footprint: Package_SO:QSOP-20_3.9x8.7mm_P0.635mm; Datasheet: https://www.analog.com/media/en/technical-documentation/data-sheets/ADuM7640_7641_7642_7643.pdf
pins: 1 VDD1A, 2 GND1, 3 VIA, 4 VIB, 5 VOC, 6 VOD, 7 VDD1B, 8 VOE, 9 VIF, 10 GND1 hidden, 11 GND2, 12 VOF, 13 VIE, 14 VDD2B, 15 VID, 16 VIC, 17 VOB, 18 VOA, 19 GND2 hidden, 20 VDD2A

## CNY17-1
designator *  value CNY17-1  Reference: U
ki_keywords: NPN DC Optocoupler Base Connected; ki_description: DC Optocoupler Base Connected, Vce 70V, CTR 40-80%, Viso 5000V (RMS), DIP6; ki_fp_filters: DIP*W7.62mm* DIP*W10.16mm* SMDIP*W9.53mm*; Datasheet: http://www.vishay.com/docs/83606/cny17.pdf
pins: 1, 2, 3 NC hidden, 4, 5, 6

## CNY17-2
designator *  value CNY17-2  Reference: U
ki_keywords: NPN DC Optocoupler Base Connected; ki_description: DC Optocoupler Base Connected, Vce 70V, CTR 63-125%, Viso 5000V (RMS), DIP6; ki_fp_filters: DIP*W7.62mm* DIP*W10.16mm* SMDIP*W9.53mm*; Datasheet: http://www.vishay.com/docs/83606/cny17.pdf
pins: 1, 2, 3 NC hidden, 4, 5, 6

## CNY17-3
designator *  value CNY17-3  Reference: U
ki_keywords: NPN DC Optocoupler Base Connected; ki_description: DC Optocoupler Base Connected, Vce 70V, CTR 100-200%, Viso 5000V (RMS), DIP6; ki_fp_filters: DIP*W7.62mm* DIP*W10.16mm* SMDIP*W9.53mm*; Datasheet: http://www.vishay.com/docs/83606/cny17.pdf
pins: 1, 2, 3 NC hidden, 4, 5, 6

## CNY17-4
designator *  value CNY17-4  Reference: U
ki_keywords: NPN DC Optocoupler Base Connected; ki_description: DC Optocoupler Base Connected, Vce 70V, CTR 160-320%, Viso 5000V (RMS), DIP6; ki_fp_filters: DIP*W7.62mm* DIP*W10.16mm* SMDIP*W9.53mm*; Datasheet: http://www.vishay.com/docs/83606/cny17.pdf
pins: 1, 2, 3 NC hidden, 4, 5, 6

## CPC-5002
designator *  value CPC-5002  Reference: U
ki_keywords: High speed optically coupled gates; ki_description: Dual High Speed CMOS Compatible Optocoupler, dV/dt 5000/us, VCM 20, -0.3V to 6.5V VCC, DIP-8; ki_fp_filters: DIP*W7.62mm*; Footprint: Package_DIP:DIP-8_W7.62mm; Datasheet: http://www.ixysic.com/home/pdfs.nsf/www/CPC5002.pdf
pins: 1 A1, 2 C1, 3 C2, 4 A2, 5 GND, 6 VO2, 7 VO1, 8 VCC

## EL814
designator *  value EL814  Reference: U
ki_keywords: NPN AC DC Optocoupler; ki_description: AC/DC NPN Optocoupler, DIP4/SMD4; ki_fp_filters: DIP*W7.62mm* DIP*W10.16mm* SMDIP*W9.53mm*; Datasheet: http://www.everlight.com/file/ProductFile/EL814.pdf
pins: 1, 2, 3, 4

## EL817
designator *  value EL817  Reference: U
ki_keywords: NPN DC Optocoupler; ki_description: DC Optocoupler, Vce 35V, DIP-4; ki_fp_filters: DIP*W7.62mm*; Footprint: Package_DIP:DIP-4_W7.62mm; Datasheet: http://www.everlight.com/file/ProductFile/EL817.pdf
pins: 1, 2, 3, 4

## FODM214
designator *  value FODM214  Reference: U
ki_keywords: AC DC Phototransistor Optocoupler; ki_description: AC/DC Optocoupler, Vce 80V, CTR 20-400%, SOP-4; ki_fp_filters: SOP*4.4x2.6mm*P1.27mm*; Footprint: Package_SO:SOP-4_4.4x2.6mm_P1.27mm; Datasheet: https://www.onsemi.com/pub/Collateral/FODM214-D.PDF
pins: 1, 2, 3, 4

## FODM214A
designator *  value FODM214A  Reference: U
ki_keywords: AC DC Phototransistor Optocoupler; ki_description: AC/DC Optocoupler, Vce 80V, CTR 50-250%, SOP-4; ki_fp_filters: SOP*4.4x2.6mm*P1.27mm*; Footprint: Package_SO:SOP-4_4.4x2.6mm_P1.27mm; Datasheet: https://www.onsemi.com/pub/Collateral/FODM214-D.PDF
pins: 1, 2, 3, 4

## FODM217A
designator *  value FODM217A  Reference: U
ki_keywords: DC Phototransistor Optocoupler; ki_description: DC Optocoupler, Vce 80V, CTR 80-160%, SOP-4; ki_fp_filters: SOP*4.4x2.6mm*P1.27mm*; Footprint: Package_SO:SOP-4_4.4x2.6mm_P1.27mm; Datasheet: https://www.onsemi.com/pub/Collateral/FODM214-D.PDF
pins: 1, 2, 3, 4

## FODM217B
designator *  value FODM217B  Reference: U
ki_keywords: DC Phototransistor Optocoupler; ki_description: DC Optocoupler, Vce 80V, CTR 130-260%, SOP-4; ki_fp_filters: SOP*4.4x2.6mm*P1.27mm*; Footprint: Package_SO:SOP-4_4.4x2.6mm_P1.27mm; Datasheet: https://www.onsemi.com/pub/Collateral/FODM214-D.PDF
pins: 1, 2, 3, 4

## FODM217C
designator *  value FODM217C  Reference: U
ki_keywords: DC Phototransistor Optocoupler; ki_description: DC Optocoupler, Vce 80V, CTR 200-400%, SOP-4; ki_fp_filters: SOP*4.4x2.6mm*P1.27mm*; Footprint: Package_SO:SOP-4_4.4x2.6mm_P1.27mm; Datasheet: https://www.onsemi.com/pub/Collateral/FODM214-D.PDF
pins: 1, 2, 3, 4

## FODM217D
designator *  value FODM217D  Reference: U
ki_keywords: DC Phototransistor Optocoupler; ki_description: DC Optocoupler, Vce 80V, CTR 300-600%, SOP-4; ki_fp_filters: SOP*4.4x2.6mm*P1.27mm*; Footprint: Package_SO:SOP-4_4.4x2.6mm_P1.27mm; Datasheet: https://www.onsemi.com/pub/Collateral/FODM214-D.PDF
pins: 1, 2, 3, 4

## H11AA1
designator *  value H11AA1  Reference: U
ki_keywords: NPN AC DC Optocoupler; ki_description: AC/DC NPN Optocoupler, DIP-6; ki_fp_filters: DIP*W7.62mm*; Footprint: Package_DIP:DIP-6_W7.62mm; Datasheet: https://www.vishay.com/docs/83608/h11aa1.pdf
pins: 1, 2, 3 NC hidden, 4, 5, 6

## H11L1
designator *  value H11L1  Reference: U
ki_keywords: High Speed Schmitt Optocoupler; ki_description: Schmitt Trigger Output Optocoupler, High Speed, DIP-6, 1.6mA turn on threshold; ki_fp_filters: DIP*W7.62mm* DIP*W10.16mm* SMDIP*W9.53mm*; Datasheet: https://www.onsemi.com/pub/Collateral/H11L3M-D.PDF
pins: 1, 2, 3 hidden, 4, 5, 6

## H11L2
designator *  value H11L2  Reference: U
ki_keywords: High Speed Schmitt Optocoupler; ki_description: Schmitt Trigger Output Optocoupler, High Speed, DIP-6, 10mA turn on threshold; ki_fp_filters: DIP*W7.62mm* DIP*W10.16mm* SMDIP*W9.53mm*; Datasheet: https://www.onsemi.com/pub/Collateral/H11L3M-D.PDF
pins: 1, 2, 3 hidden, 4, 5, 6

## H11L3
designator *  value H11L3  Reference: U
ki_keywords: High Speed Schmitt Optocoupler; ki_description: Schmitt Trigger Output Optocoupler, High Speed, DIP-6, 5mA turn on threshold; ki_fp_filters: DIP*W7.62mm* DIP*W10.16mm* SMDIP*W9.53mm*; Datasheet: https://www.onsemi.com/pub/Collateral/H11L3M-D.PDF
pins: 1, 2, 3 hidden, 4, 5, 6

## HCNW2201
designator *  value HCNW2201  Reference: U
ki_keywords: opto coupler schmitt output; ki_description: Opto Coupler, 1kV/us, 50V CMR, Schmitt trigger output, WDIP-8; ki_fp_filters: DIP*W10.16mm*; Footprint: Package_DIP:DIP-8_W10.16mm; Datasheet: https://docs.broadcom.com/docs/AV02-0674EN
pins: 1 hidden, 2, 3, 4 hidden, 5, 6 hidden, 7, 8

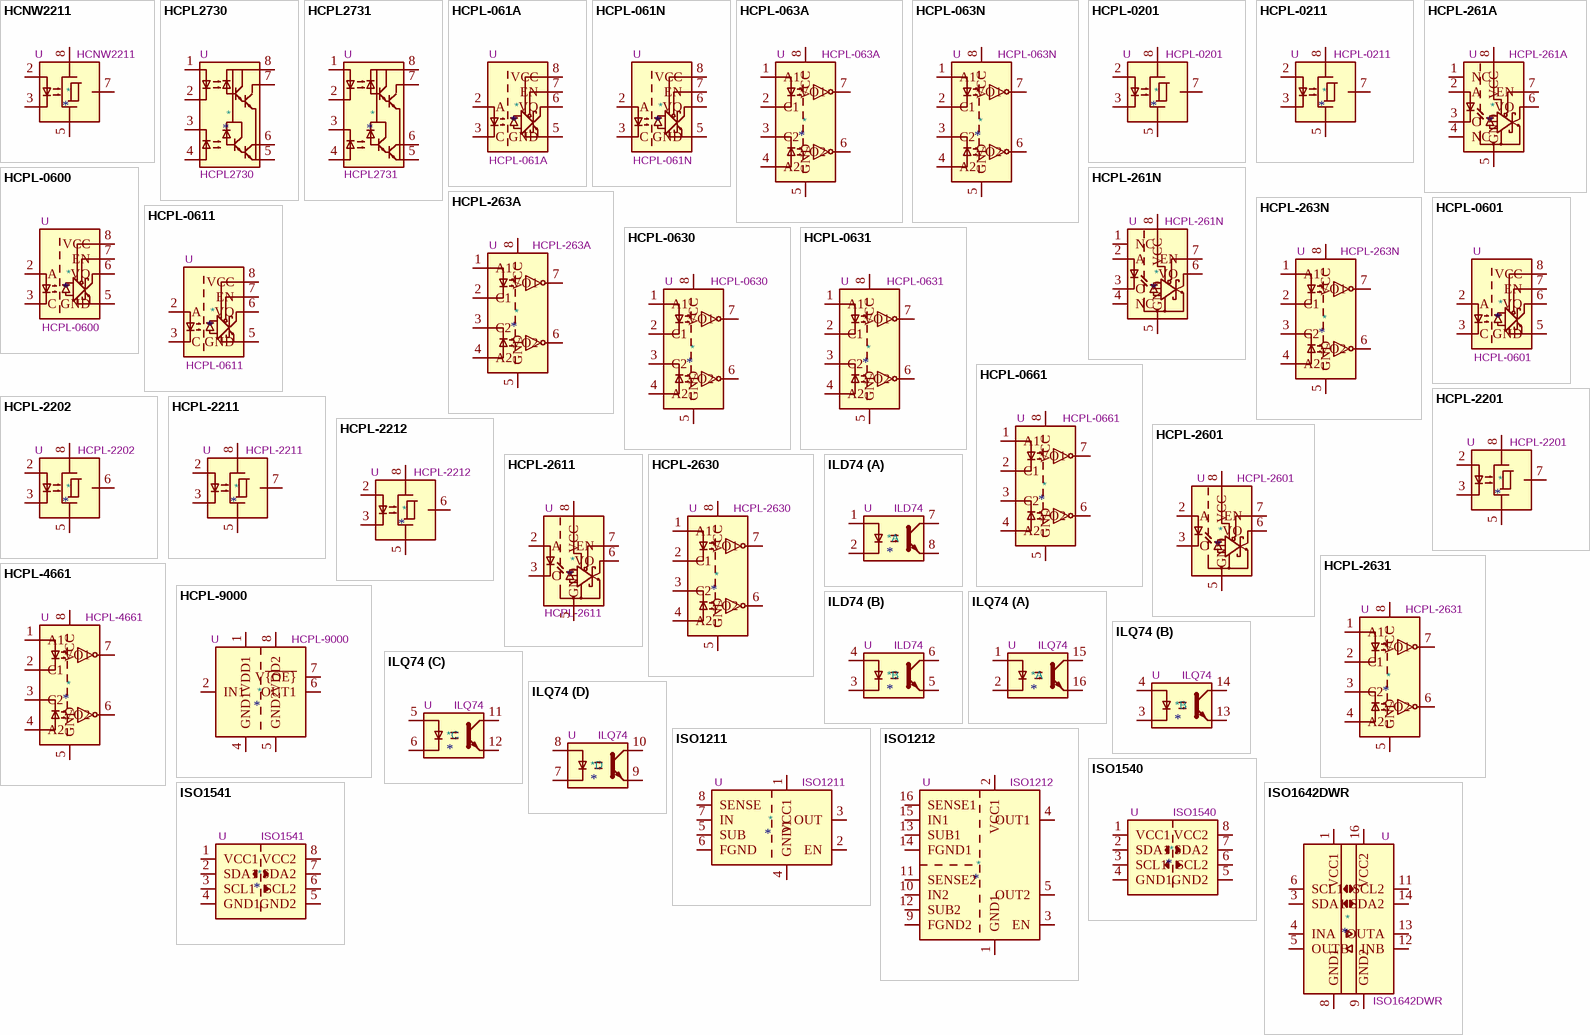
[diagram p2: symbols HCNW2211 to ISO1642DWR]

## HCNW2211
designator *  value HCNW2211  Reference: U
ki_keywords: opto coupler schmitt output; ki_description: Opto Coupler, 10kV/us, 1kV CMR, Schmitt trigger output, WDIP-8; ki_fp_filters: DIP*W10.16mm*; Footprint: Package_DIP:DIP-8_W10.16mm; Datasheet: https://docs.broadcom.com/docs/AV02-0674EN
pins: 1 hidden, 2, 3, 4 hidden, 5, 6 hidden, 7, 8

## HCPL2730
designator *  value HCPL2730  Reference: U
ki_keywords: darlington optocoupler; ki_description: Low Input Current high Gain Split Darlington Optocouplers; ki_fp_filters: DIP*W7.62mm* SMDIP*W9.53mm*; Datasheet: http://www.onsemi.com/pub/Collateral/HCPL2731-D.pdf
pins: 1 A1, 2 C1, 3 C2, 4 A2, 5 GND, 6 VO2, 7 VO1, 8 VCC

## HCPL2731
designator *  value HCPL2731  Reference: U
ki_keywords: darlington optocoupler; ki_description: Low Input Current high Gain Split Darlington Optocouplers, DIP-8; ki_fp_filters: DIP*W7.62mm* SMDIP*W9.53mm*; Datasheet: http://www.onsemi.com/pub/Collateral/HCPL2731-D.pdf
pins: 1 A1, 2 C1, 3 C2, 4 A2, 5 GND, 6 VO2, 7 VO1, 8 VCC

## HCPL-061A
designator *  value HCPL-061A  Reference: U
ki_keywords: High speed optically coupled gates enable; ki_description: Single High Speed HCMOS/LSTTL/TTL Compatible Optocoupler with enable, dV/dt 1000/us, VCM 50, -0.5V to 7V VCC, SOIC-8; ki_fp_filters: SOIC*3.9x4.9mm?P1.27mm*; Footprint: Package_SO:SOIC-8_3.9x4.9mm_P1.27mm; Datasheet: http://docs.avagotech.com/docs/AV02-0391EN
pins: 1 NC hidden, 2 A, 3 C, 5 GND, 6 VO, 7 EN, 8 VCC

## HCPL-061N
designator *  value HCPL-061N  Reference: U
ki_keywords: High speed optically coupled gates enable; ki_description: Single High Speed HCMOS/LSTTL/TTL Compatible Optocoupler with enable, dV/dt 1000/us, VCM 1000, -0.5V to 7V VCC, SOIC-8; ki_fp_filters: SOIC*3.9x4.9mm?P1.27mm*; Footprint: Package_SO:SOIC-8_3.9x4.9mm_P1.27mm; Datasheet: http://docs.avagotech.com/docs/AV02-0391EN
pins: 1 NC hidden, 2 A, 3 C, 5 GND, 6 VO, 7 EN, 8 VCC

## HCPL-063A
designator *  value HCPL-063A  Reference: U
ki_keywords: High speed optically coupled gates; ki_description: Dual High Speed HCMOS/LSTTL/TTL Compatible Optocoupler, dV/dt 1000/us, VCM 50, -0.5V to 7V VCC, SOIC-8; ki_fp_filters: SOIC*3.9x4.9mm?P1.27mm*; Footprint: Package_SO:SOIC-8_3.9x4.9mm_P1.27mm; Datasheet: http://docs.avagotech.com/docs/AV02-0391EN
pins: 1 A1, 2 C1, 3 C2, 4 A2, 5 GND, 6 VO2, 7 VO1, 8 VCC

## HCPL-063N
designator *  value HCPL-063N  Reference: U
ki_keywords: High speed optically coupled gates; ki_description: Dual High Speed HCMOS/LSTTL/TTL Compatible Optocoupler, dV/dt 1000/us, VCM 1000, -0.5V to 7V VCC, SOIC-8; ki_fp_filters: SOIC*3.9x4.9mm?P1.27mm*; Footprint: Package_SO:SOIC-8_3.9x4.9mm_P1.27mm; Datasheet: http://docs.avagotech.com/docs/AV02-0391EN
pins: 1 A1, 2 C1, 3 C2, 4 A2, 5 GND, 6 VO2, 7 VO1, 8 VCC

## HCPL-0201
designator *  value HCPL-0201  Reference: U
ki_keywords: opto coupler schmitt output; ki_description: Opto Coupler, 1kV/us, 50V CMR, Schmitt trigger output, SOIC-8; ki_fp_filters: SOIC*3.9x4.9mm*P1.27mm*; Footprint: Package_SO:SOIC-8_3.9x4.9mm_P1.27mm; Datasheet: https://docs.broadcom.com/docs/AV02-0674EN
pins: 1 hidden, 2, 3, 4 hidden, 5, 6 hidden, 7, 8

## HCPL-0211
designator *  value HCPL-0211  Reference: U
ki_keywords: opto coupler schmitt output; ki_description: Opto Coupler, 5kV/us, 300V CMR, Schmitt trigger output, SOIC-8; ki_fp_filters: SOIC*3.9x4.9mm*P1.27mm*; Footprint: Package_SO:SOIC-8_3.9x4.9mm_P1.27mm; Datasheet: https://docs.broadcom.com/docs/AV02-0674EN
pins: 1 hidden, 2, 3, 4 hidden, 5, 6 hidden, 7, 8

## HCPL-261A
designator *  value HCPL-261A  Reference: U
ki_keywords: High speed optically coupled gates enable; ki_description: Single High Speed HCMOS/LSTTL/TTL Compatible Optocoupler with enable, dV/dt 1000/us, VCM 50, -0.5V to 7V VCC, DIP-8; ki_fp_filters: DIP*W7.62mm*; Footprint: Package_DIP:DIP-8_W7.62mm; Datasheet: https://docs.broadcom.com/doc/AV02-0391EN
pins: 1 NC, 2 A, 3 C, 4 NC, 5 GND, 6 VO, 7 EN, 8 VCC

## HCPL-261N
designator *  value HCPL-261N  Reference: U
ki_keywords: High speed optically coupled gates enable; ki_description: Single High Speed HCMOS/LSTTL/TTL Compatible Optocoupler with enable, dV/dt 1000/us, VCM 1000, -0.5V to 7V VCC, DIP-8; ki_fp_filters: DIP*W7.62mm*; Footprint: Package_DIP:DIP-8_W7.62mm; Datasheet: https://docs.broadcom.com/doc/AV02-0391EN
pins: 1 NC, 2 A, 3 C, 4 NC, 5 GND, 6 VO, 7 EN, 8 VCC

## HCPL-263A
designator *  value HCPL-263A  Reference: U
ki_keywords: High speed optically coupled gates; ki_description: Dual High Speed HCMOS/LSTTL/TTL Compatible Optocoupler, dV/dt 1000/us, VCM 50, -0.5V to 7V VCC, DIP-8; ki_fp_filters: DIP*W7.62mm*; Footprint: Package_DIP:DIP-8_W7.62mm; Datasheet: https://docs.broadcom.com/doc/AV02-0391EN
pins: 1 A1, 2 C1, 3 C2, 4 A2, 5 GND, 6 VO2, 7 VO1, 8 VCC

## HCPL-263N
designator *  value HCPL-263N  Reference: U
ki_keywords: High speed optically coupled gates; ki_description: Dual High Speed HCMOS/LSTTL/TTL Compatible Optocoupler, dV/dt 1000/us, VCM 1000, -0.5V to 7V VCC, DIP-8; ki_fp_filters: DIP*W7.62mm*; Footprint: Package_DIP:DIP-8_W7.62mm; Datasheet: https://docs.broadcom.com/doc/AV02-0391EN
pins: 1 A1, 2 C1, 3 C2, 4 A2, 5 GND, 6 VO2, 7 VO1, 8 VCC

## HCPL-0600
designator *  value HCPL-0600  Reference: U
ki_keywords: High speed optically coupled gates enable; ki_description: Single High Speed LSTTL/TTL Compatible Optocoupler with enable, dV/dt 5000/us, VCM 1000, max 7V VCC, SOIC-8; ki_fp_filters: SOIC*3.9x4.9mm?P1.27mm*; Footprint: Package_SO:SOIC-8_3.9x4.9mm_P1.27mm; Datasheet: https://docs.broadcom.com/docs/AV02-0940EN
pins: 1 NC hidden, 2 A, 3 C, 5 GND, 6 VO, 7 EN, 8 VCC

## HCPL-0601
designator *  value HCPL-0601  Reference: U
ki_keywords: High speed optically coupled gates enable; ki_description: Single High Speed LSTTL/TTL Compatible Optocoupler with enable, dV/dt 10000/us, VCM 1000, max 7V VCC, SOIC-8; ki_fp_filters: SOIC*3.9x4.9mm?P1.27mm*; Footprint: Package_SO:SOIC-8_3.9x4.9mm_P1.27mm; Datasheet: https://docs.broadcom.com/docs/AV02-0940EN
pins: 1 NC hidden, 2 A, 3 C, 5 GND, 6 VO, 7 EN, 8 VCC

## HCPL-0611
designator *  value HCPL-0611  Reference: U
ki_keywords: High speed optically coupled gates enable; ki_description: Single High Speed LSTTL/TTL Compatible Optocoupler with enable, dV/dt 15000/us, VCM 1000, max 7V VCC, SOIC-8; ki_fp_filters: SOIC*3.9x4.9mm?P1.27mm*; Footprint: Package_SO:SOIC-8_3.9x4.9mm_P1.27mm; Datasheet: https://docs.broadcom.com/docs/AV02-0940EN
pins: 1 NC hidden, 2 A, 3 C, 5 GND, 6 VO, 7 EN, 8 VCC

## HCPL-0630
designator *  value HCPL-0630  Reference: U
ki_keywords: High speed optically coupled gates; ki_description: Dual High Speed LSTTL/TTL Compatible Optocoupler, dV/dt 5000/us, VCM 1000, max 7V VCC, SOIC-8; ki_fp_filters: SOIC*3.9x4.9mm?P1.27mm*; Footprint: Package_SO:SOIC-8_3.9x4.9mm_P1.27mm; Datasheet: https://docs.broadcom.com/docs/AV02-0940EN
pins: 1 A1, 2 C1, 3 C2, 4 A2, 5 GND, 6 VO2, 7 VO1, 8 VCC

## HCPL-0631
designator *  value HCPL-0631  Reference: U
ki_keywords: High speed optically coupled gates; ki_description: Dual High Speed LSTTL/TTL Compatible Optocoupler, dV/dt 10000/us, VCM 1000, max 7V VCC, SOIC-8; ki_fp_filters: SOIC*3.9x4.9mm?P1.27mm*; Footprint: Package_SO:SOIC-8_3.9x4.9mm_P1.27mm; Datasheet: https://docs.broadcom.com/docs/AV02-0940EN
pins: 1 A1, 2 C1, 3 C2, 4 A2, 5 GND, 6 VO2, 7 VO1, 8 VCC

## HCPL-0661
designator *  value HCPL-0661  Reference: U
ki_keywords: High speed optically coupled gates; ki_description: Dual High Speed LSTTL/TTL Compatible Optocoupler, dV/dt 15000/us, VCM 1000, max 7V VCC, SOIC-8; ki_fp_filters: SOIC*3.9x4.9mm?P1.27mm*; Footprint: Package_SO:SOIC-8_3.9x4.9mm_P1.27mm; Datasheet: https://docs.broadcom.com/docs/AV02-0940EN
pins: 1 A1, 2 C1, 3 C2, 4 A2, 5 GND, 6 VO2, 7 VO1, 8 VCC

## HCPL-2201
designator *  value HCPL-2201  Reference: U
ki_keywords: opto coupler schmitt output; ki_description: Opto Coupler, 1kV/us, 50V CMR, Schmitt trigger output, DIP-8; ki_fp_filters: DIP*W7.62mm*; Footprint: Package_DIP:DIP-8_W7.62mm; Datasheet: https://docs.broadcom.com/docs/AV02-0674EN
pins: 1 hidden, 2, 3, 4 hidden, 5, 6 hidden, 7, 8

## HCPL-2202
designator *  value HCPL-2202  Reference: U
ki_keywords: opto coupler schmitt output; ki_description: Opto Coupler, 1kV/us, 50V CMR, Schmitt trigger output, DIP-8; ki_fp_filters: DIP*W7.62mm*; Footprint: Package_DIP:DIP-8_W7.62mm; Datasheet: https://docs.broadcom.com/docs/AV02-0674EN
pins: 1 hidden, 2, 3, 4 hidden, 5, 6, 7 hidden, 8

## HCPL-2211
designator *  value HCPL-2211  Reference: U
ki_keywords: opto coupler schmitt output; ki_description: Opto Coupler, 5kV/us, 300V CMR, Schmitt trigger output, DIP-8; ki_fp_filters: DIP*W7.62mm*; Footprint: Package_DIP:DIP-8_W7.62mm; Datasheet: https://docs.broadcom.com/docs/AV02-0674EN
pins: 1 hidden, 2, 3, 4 hidden, 5, 6 hidden, 7, 8

## HCPL-2212
designator *  value HCPL-2212  Reference: U
ki_keywords: opto coupler schmitt output; ki_description: Opto Coupler, 5kV/us, 300V CMR, Schmitt trigger output, DIP-8; ki_fp_filters: DIP*W7.62mm*; Footprint: Package_DIP:DIP-8_W7.62mm; Datasheet: https://docs.broadcom.com/docs/AV02-0674EN
pins: 1 hidden, 2, 3, 4 hidden, 5, 6, 7 hidden, 8

## HCPL-2601
designator *  value HCPL-2601  Reference: U
ki_keywords: High speed optically coupled gates enable; ki_description: Single High Speed LSTTL/TTL Compatible Optocoupler with enable, dV/dt 10000V/us, VCM 1000, max 7V VCC, DIP-8; ki_fp_filters: DIP*W7.62mm*; Footprint: Package_DIP:DIP-8_W7.62mm; Datasheet: https://docs.broadcom.com/doc/6N137-HCNW137-2601-2611-HCPL-0600-0601-0611-0630-0631-0661-2601-2611-2630-2631-4661-High-CMR-High-Speed-TTL-Compatible-Optocouplers-DS
pins: 1 NC hidden, 2 A, 3 C, 4 hidden, 5 GND, 6 VO, 7 EN, 8 VCC

## HCPL-2611
designator *  value HCPL-2611  Reference: U
ki_keywords: High speed optically coupled gates enable; ki_description: Single High Speed LSTTL/TTL Compatible Optocoupler with enable, dV/dt 15000V/us, VCM 1000, max 7V VCC, DIP-8; ki_fp_filters: DIP*W7.62mm*; Footprint: Package_DIP:DIP-8_W7.62mm; Datasheet: https://docs.broadcom.com/doc/6N137-HCNW137-2601-2611-HCPL-0600-0601-0611-0630-0631-0661-2601-2611-2630-2631-4661-High-CMR-High-Speed-TTL-Compatible-Optocouplers-DS
pins: 1 NC hidden, 2 A, 3 C, 4 hidden, 5 GND, 6 VO, 7 EN, 8 VCC

## HCPL-2630
designator *  value HCPL-2630  Reference: U
ki_keywords: High speed optically coupled gates; ki_description: Dual High Speed LSTTL/TTL Compatible Optocoupler, dV/dt 5000/us, VCM 1000, max 7V VCC, DIP-8; ki_fp_filters: DIP*W7.62mm*; Footprint: Package_DIP:DIP-8_W7.62mm; Datasheet: https://docs.broadcom.com/docs/AV02-0940EN
pins: 1 A1, 2 C1, 3 C2, 4 A2, 5 GND, 6 VO2, 7 VO1, 8 VCC

## HCPL-2631
designator *  value HCPL-2631  Reference: U
ki_keywords: High speed optically coupled gates; ki_description: Dual High Speed LSTTL/TTL Compatible Optocoupler, dV/dt 10000/us, VCM 1000, max 7V VCC, DIP-8; ki_fp_filters: DIP*W7.62mm*; Footprint: Package_DIP:DIP-8_W7.62mm; Datasheet: https://docs.broadcom.com/docs/AV02-0940EN
pins: 1 A1, 2 C1, 3 C2, 4 A2, 5 GND, 6 VO2, 7 VO1, 8 VCC

## HCPL-4661
designator *  value HCPL-4661  Reference: U
ki_keywords: High speed optically coupled gates; ki_description: Dual High Speed LSTTL/TTL Compatible Optocoupler, dV/dt 15000/us, VCM 1000, max 7V VCC, DIP-8; ki_fp_filters: DIP*W7.62mm*; Footprint: Package_DIP:DIP-8_W7.62mm; Datasheet: https://docs.broadcom.com/docs/AV02-0940EN
pins: 1 A1, 2 C1, 3 C2, 4 A2, 5 GND, 6 VO2, 7 VO1, 8 VCC

## HCPL-9000
designator *  value HCPL-9000  Reference: U
ki_keywords: digital isolator, high speed; ki_description: High Speed Digital Isolator, CMOS, excellent transient immunity, active-low logic output enable, DIP-8; ki_fp_filters: DIP*W7.62mm*; Footprint: Package_DIP:DIP-8_W7.62mm; Datasheet: https://docs.broadcom.com/docs/AV02-0137EN
pins: 1 VDD1, 2 IN1, 3 NC hidden, 4 GND1, 5 GND2, 6 OUT1, 7 V~{{OE}}, 8 VDD2

## ILD74
designator *  value ILD74  Reference: U
ki_keywords: NPN DC Dual Optocoupler; ki_description: Dual Optocoupler, NPN Phototransistor Output, TTL compatible, DIP8/SMD8; ki_fp_filters: DIP*W7.62mm* DIP*W10.16mm* SMDIP*W9.53mm*Clearance8mm*; Datasheet: https://www.vishay.com/docs/83640/ild74.pdf
part A pins: 1, 2, 7, 8
part B pins: 3, 4, 5, 6

## ILQ74
designator *  value ILQ74  Reference: U
ki_keywords: NPN DC Dual Optocoupler; ki_description: Quad Optocoupler, NPN Phototransistor Output, TTL compatible, DIP16/SMD16; ki_fp_filters: DIP*W7.62mm* DIP*W10.16mm* SMDIP*W9.53mm*Clearance8mm*; Datasheet: https://www.vishay.com/docs/83640/ild74.pdf
part A pins: 1, 2, 15, 16
part B pins: 3, 4, 13, 14
part C pins: 5, 6, 11, 12
part D pins: 7, 8, 9, 10

## ISO1211
designator *  value ISO1211  Reference: U
ki_keywords: isolated digital input; ki_description: Isolated, 1 Channel, 24 to 60V Digital Input Receiver, SOIC-8; ki_fp_filters: SOIC*3.9x4.9mm*P1.27mm*; Footprint: Package_SO:SOIC-8_3.9x4.9mm_P1.27mm; Datasheet: http://www.ti.com/lit/ds/symlink/iso1211.pdf
pins: 1 VCC1, 2 EN, 3 OUT, 4 GND1, 5 SUB, 6 FGND, 7 IN, 8 SENSE

## ISO1212
designator *  value ISO1212  Reference: U
ki_keywords: isolated digital input; ki_description: Isolated, 2 Channels, 24 to 60V Digital Inputs Receiver, SSOP-16; ki_fp_filters: SSOP*3.9x4.9mm*P0.635mm*; Footprint: Package_SO:SSOP-16_3.9x4.9mm_P0.635mm; Datasheet: http://www.ti.com/lit/ds/symlink/iso1212.pdf
pins: 1 GND1, 2 VCC1, 3 EN, 4 OUT1, 5 OUT2, 6 NC hidden, 7 NC hidden, 8 GND1 hidden, 9 FGND2, 10 IN2, 11 SENSE2, 12 SUB2, 13 SUB1, 14 FGND1, 15 IN1, 16 SENSE1